# Altium footprint library GRM033D70J224ME01D.PcbLib: 1 footprints
Each footprint in its own frame and in the unit in brackets; x right, y up, seen from the top. Pads: shape width x height; smd on the part's side, far side on the other; paste and mask are expansions set on the pad; w line width, h text height; cw(c..) or ccw(c..) is an arc to the next point about the centre after c.
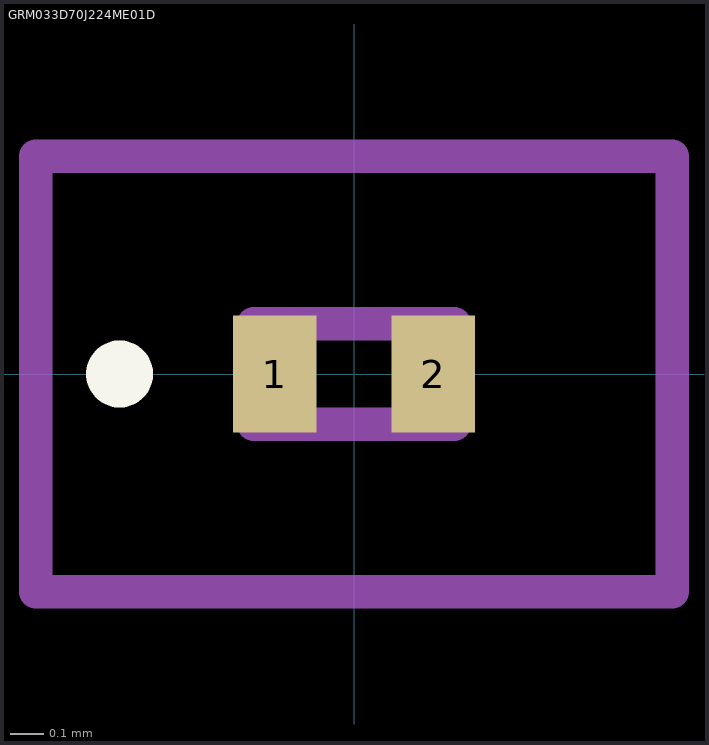
[diagram p0: the footprint, top view; thin cyan lines are the x and y axes]

## GRM033D70J224ME01D [mm]
pads (2):
  rect 0.25x0.35 smd: 1(-0.237,0) 2(0.237,0)
Top Overlay:
  lines w0.1: -0.7,-0.05 cw(c-0.7,0) -0.7,0.05 ; -0.7,-0.05 -0.7,-0.05 ; -0.7,-0.05 ccw(c-0.7,0) -0.7,0.05 ; -0.7,0.05 -0.7,0.05
Mechanical 15:
  lines w0.1: -0.3,-0.15 0.3,-0.15 0.3,0.15 -0.3,0.15 -0.3,-0.15
Mechanical 20:
  lines w0.1: -0.95,-0.65 0.95,-0.65 0.95,0.65 -0.95,0.65 -0.95,-0.65